# EAGLE library part 50100_ACS71X (library BARUC)
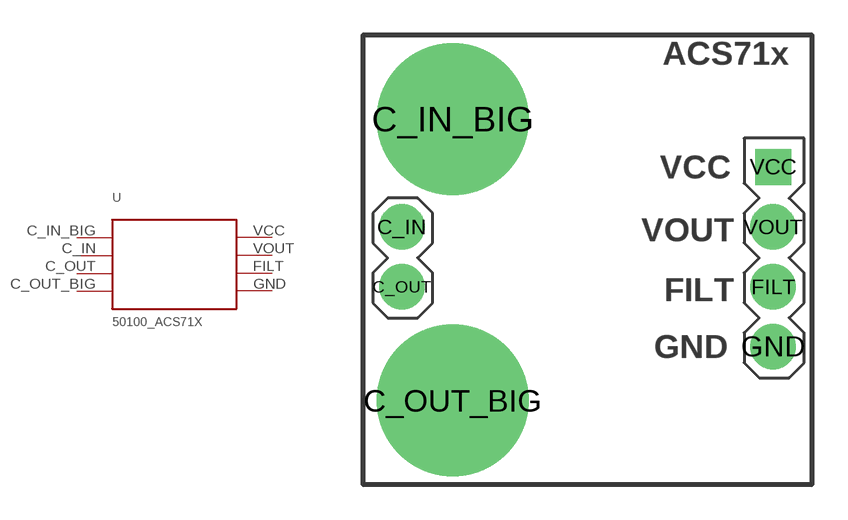
[diagram p3: symbol with the pads of 50100_ACS71X; footprint 50100_ACS71X]

Designator prefix -

## 50100_ACS71X5A  [50100_ACS71X]
C_IN  C_IN  in
C_IN_BIG  C_IN_BIG  in
C_OUT  C_OUT  out
C_OUT_BIG  C_OUT_BIG  out
FILT  FILTER  in
GND  GND  pwr
VCC  VCC  pwr
VOUT  VOUT  out

## Footprint 50100_ACS71X (pad centres in mm)
drill 1.016 pad 1.93: C_IN 1.651,10.922; C_OUT 1.651,8.382; FILT 17.399,8.382; GND 17.399,5.842; VOUT 17.399,10.922
drill 3.175 pad 6.452: C_IN_BIG 3.81,15.494; C_OUT_BIG 3.81,3.556
drill 1.016 square: VCC 17.399,13.462